# Altium footprint library airu-board.PCBLIB: 118 footprints (part 6 of 8)
Each footprint in its own frame and in the unit in brackets; x right, y up, seen from the top. Pads: shape width x height; smd on the part's side, far side on the other; paste and mask are expansions set on the pad; w line width, h text height; cw(c..) or ccw(c..) is an arc to the next point about the centre after c.
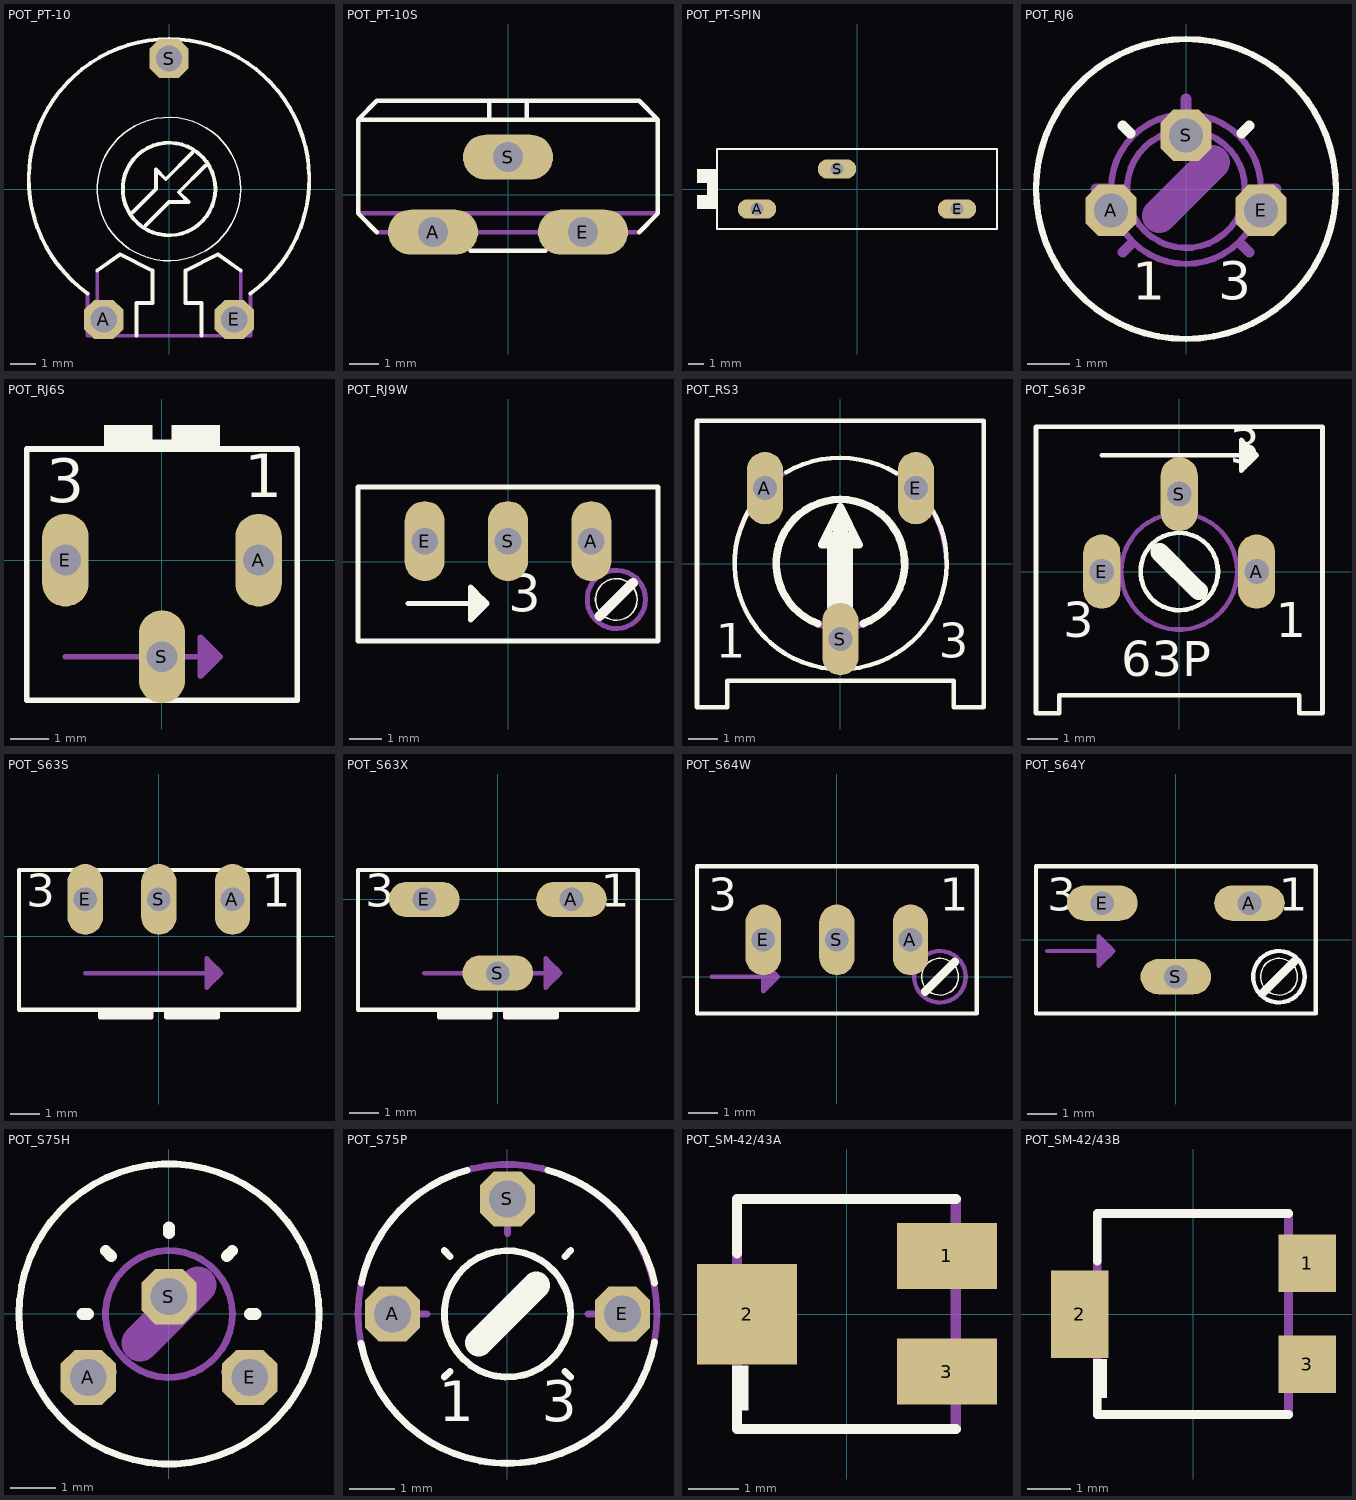
[diagram p5: the footprints below, top view; thin cyan lines are the x and y axes]

## POT_PT-10 [mil]
pads (3):
  oct 60x60 hole 40: A(-100,-200) E(100,-200) S(0,200)
Top Overlay:
  circle w6: c0,0 r71
  circle w2: c0,0 r110
  lines w6: -125,-160 cw(c0,15) 125,-160 ; -110,-125 -75,-100 -25,-125 -25,-175 -50,-175 -50,-225 ; -55,-35 -20,0 -20,30 -5,15 35,55 ; -35,-55 0,-20 30,-20 15,-5 55,35 ; 50,-225 50,-175 25,-175 25,-125 75,-100 110,-125
Mechanical 16:
  lines w6: -125,-160 -125,-225 125,-225 125,-160 ; -110,-225 -110,-125 ; 110,-225 110,-125

## POT_PT-10S [mil]
pads (3):
  oval 120x60 hole 40: A(-100,-50) E(100,-50) S(0,50)
Top Overlay:
  lines w6: -175,-50 -200,-25 -200,100 ; -50,-75 50,-75 ; -25,100 -25,125 ; 25,100 25,125 ; 175,-50 200,-25 200,100 ; -200,100 -175,125 175,125 200,100 ; -200,100 200,100
Mechanical 16:
  lines w6: -200,-25 200,-25 ; -175,-50 175,-50 ; -75,-50 -50,-75 ; 50,-75 75,-50

## POT_PT-SPIN [mil]
pads (3):
  oval 96x48 hole 32: A(-250,-50) E(250,-50) S(-50,50)
Top Overlay:
  rectangle: -375,-50 -350,50
  rectangle: -400,15 -375,50
  rectangle: -400,-50 -375,-15
  lines w6: -350,-100 350,-100 350,100 -350,100 -350,-100

## POT_RJ6 [mil]
pads (3):
  oct 48x48 hole 32: A(-70,-20) E(70,-20) S(0,50)
Top Overlay:
  circle w6: c0,0 r140
  lines w10: -59,59 -52,52 ; 52,52 59,59
  text "3" at 30,-115 h60.45
  text "1" at -50,-115 h60.45
Mechanical 16:
  circle w6: c0,0 r55
  circle w6: c0,0 r70
  lines w10: -84,0 -74,0 ; -59,-59 -52,-52 ; 0,74 0,84 ; 52,-52 59,-59 ; 74,0 84,0
  lines w32: -25,-25 25,25

## POT_RJ6S [mil]
pads (3):
  oval 48x96 hole 32: A(100,0) E(-100,0) S(0,-100)
Top Overlay:
  rectangle: -60,115 -10,140
  rectangle: 10,115 60,140
  rectangle: -10,115 10,125
  lines w6: -140,-145 -140,115 140,115 140,-145 -140,-145
  text "3" at -120,45 h77.5
  text "1" at 85,50 h77.5
Mechanical 16:
  lines w6: -100,-100 45,-100 ; 45,-115 50,-110 ; 45,-115 45,-100 ; 45,-115 40,-120 40,-80 45,-85 ; 45,-100 60,-100 ; 45,-100 45,-85 ; 45,-85 50,-90 ; 50,-110 50,-90 ; 50,-110 55,-105 ; 50,-90 55,-95 ; 55,-105 60,-100 ; 55,-105 55,-95 ; 55,-95 60,-100
  text "3" at 75,-125 h77.5

## POT_RJ9W [mil]
pads (3):
  oval 48x96 hole 32: A(100,25) E(-100,25) S(0,25)
Top Overlay:
  circle w2: c130,-45 r25
  lines w6: -120,-50 -40,-50 ; -40,-65 -35,-60 ; -40,-65 -40,-50 ; -40,-65 -45,-70 -45,-30 -40,-35 ; -40,-50 -25,-50 ; -40,-50 -40,-35 ; -40,-35 -35,-40 ; -35,-60 -35,-40 ; -35,-60 -30,-55 ; -35,-40 -30,-45 ; -30,-55 -25,-50 ; -30,-55 -30,-45 ; -30,-45 -25,-50 ; -180,-95 180,-95 180,90 -180,90 -180,-95
  lines w12: 110,-65 150,-25
  text "3" at 0,-75 h77.5
Mechanical 16:
  circle w6: c130,-45 r35
  text "1" at 135,5 h77.5
  text "3" at -170,0 h77.5

## POT_RS3 [mil]
pads (3):
  oval 48x96 hole 32: A(-100,100) E(100,100) S(0,-100)
Top Overlay:
  lines w6: -121.56,70 ccw(c0.16,0.27) 0,-140 ccw(c0.2,0.76) 121,73 ; -72.03,121 cw(c-1.72,0.48) 0,140 cw(c1.46,-1.5) 74,120 ; -190,-190 -190,189 190,189 190,-190 150,-190 150,-155 -150,-155 -150,-190 -190,-190
  lines w10: -29.85,-79.59 cw(c0,0) 0,85 cw(c0.08,-0.01) 30,-79.59 ; -15,40 -15,25 ; -10,25 -13,25 ; 0,-60 -5,-60 -5,60 5,60 5,-60 ; 10,25 12,25 ; 15,40 15,25 ; -15,25 -25,25 0,75 25,25 15,25 ; -15,25 -13,25 ; -13,25 -13,-62 12,-62 12,25 ; 12,25 15,25
  text "1" at -165,-140 h77.5
  text "3" at 130,-140 h77.5
Mechanical 16:
  lines w6: -140,0 cw(c0.75,0.45) -66.68,124 ; 63,126 cw(c-0.44,0.71) 140,0
  lines w10: -35.62,-77.18 ccw(c0,0) 0,-85 ccw(c0.5,2.09) 39,-76.03

## POT_S63P [mil]
pads (3):
  oval 48x96 hole 32: A(100,0) E(-100,0) S(0,100)
Top Overlay:
  circle w6: c0,0 r50
  lines w6: -100,150 85,150 ; 85,135 90,140 ; 85,135 85,150 ; 85,135 80,130 80,170 85,165 ; 85,150 100,150 ; 85,150 85,165 ; 85,165 90,160 ; 90,140 90,160 ; 90,140 95,145 ; 90,160 95,155 ; 95,145 100,150 ; 95,145 95,155 ; 95,155 100,150 ; -185,-183 -185,187 185,187 185,-183 155,-183 155,-160 -155,-160 -155,-183 -185,-183
  lines w24: -25,25 25,-25
  text "63P" at -75,-150 h77.5
  text "1" at 125,-100 h77.5
  text "3" at -150,-100 h77.5
  text "3" at 65,125 h77.5
Mechanical 16:
  circle w6: c0,0 r75

## POT_S63S [mil]
pads (3):
  oval 48x96 hole 32: A(100,50) E(-100,50) S(0,50)
Top Overlay:
  lines w6: -80,-105 -80,-100 ; -80,-105 -80,-110 -10,-110 -10,-105 ; -80,-105 -10,-105 ; -80,-100 -190,-100 -190,90 190,90 190,-100 80,-100 ; -80,-100 -10,-100 ; -10,-105 -10,-100 ; -10,-100 10,-100 ; 10,-105 80,-105 ; 10,-105 10,-110 80,-110 80,-105 ; 10,-105 10,-100 ; 10,-100 80,-100 ; 80,-105 80,-100
  text "3" at -180,25 h77.5
  text "1" at 140,25 h77.5
Mechanical 16:
  lines w6: -100,-50 70,-50 ; 70,-65 75,-60 ; 70,-65 70,-50 ; 70,-65 65,-70 65,-30 70,-35 ; 70,-50 85,-50 ; 70,-50 70,-35 ; 70,-35 75,-40 ; 75,-60 75,-40 ; 75,-60 80,-55 ; 75,-40 80,-45 ; 80,-55 85,-50 ; 80,-55 80,-45 ; 80,-45 85,-50
  text "3" at 100,-75 h77.5

## POT_S63X [mil]
pads (3):
  oval 96x48 hole 32: A(100,0) E(-100,0) S(0,-100)
Top Overlay:
  lines w6: -80,-155 -80,-150 ; -80,-155 -10,-155 ; -80,-155 -80,-160 -10,-160 -10,-155 ; -80,-150 -190,-150 -190,40 190,40 190,-150 80,-150 ; -80,-150 -10,-150 ; -10,-155 -10,-150 ; -10,-150 10,-150 ; 10,-155 10,-160 80,-160 80,-155 ; 10,-155 10,-150 ; 10,-155 80,-155 ; 10,-150 80,-150 ; 80,-155 80,-150
  text "3" at -180,-25 h77.5
  text "1" at 140,-25 h77.5
Mechanical 16:
  lines w6: -100,-100 70,-100 ; 70,-115 75,-110 ; 70,-115 70,-100 ; 70,-115 65,-120 65,-80 70,-85 ; 70,-100 85,-100 ; 70,-100 70,-85 ; 70,-85 75,-90 ; 75,-110 75,-90 ; 75,-110 80,-105 ; 75,-90 80,-95 ; 80,-105 85,-100 ; 80,-105 80,-95 ; 80,-95 85,-100
  text "3" at 100,-125 h77.5

## POT_S64W [mil]
pads (3):
  oval 48x96 hole 32: A(100,50) E(-100,50) S(0,50)
Top Overlay:
  circle w2: c140,0 r25
  lines w6: -190,-50 190,-50 190,150 -190,150 -190,-50
  lines w12: 120,-20 160,20
  text "3" at -175,75 h77.5
  text "1" at 140,75 h77.5
Mechanical 16:
  circle w6: c140,0 r35
  lines w6: -170,0 -95,0 ; -95,-15 -90,-10 ; -95,-15 -95,0 ; -95,-15 -100,-20 -100,20 -95,15 ; -95,0 -80,0 ; -95,0 -95,15 ; -95,15 -90,10 ; -90,-10 -90,10 ; -90,-10 -85,-5 ; -90,10 -85,5 ; -85,-5 -80,0 ; -85,-5 -85,5 ; -85,5 -80,0
  text "3" at -75,-25 h77.5

## POT_S64Y [mil]
pads (3):
  oval 96x48 hole 32: A(100,50) E(-100,50) S(0,-50)
Top Overlay:
  circle w6: c140,-50 r35
  circle w2: c140,-50 r25
  lines w6: -190,-100 190,-100 190,100 -190,100 -190,-100
  lines w12: 120,-70 160,-30
  text "3" at -175,25 h77.5
  text "1" at 140,25 h77.5
Mechanical 16:
  lines w6: -175,-15 -100,-15 ; -100,-30 -95,-25 ; -100,-30 -100,-15 ; -100,-30 -105,-35 -105,5 -100,0 ; -100,-15 -85,-15 ; -100,-15 -100,0 ; -100,0 -95,-5 ; -95,-25 -95,-5 ; -95,-25 -90,-20 ; -95,-5 -90,-10 ; -90,-20 -85,-15 ; -90,-20 -90,-10 ; -90,-10 -85,-15
  text "3" at -80,-40 h77.5

## POT_S75H [mil]
pads (3):
  oct 48x48 hole 32: A(-70,-55) E(70,-55) S(0,15)
Top Overlay:
  circle w6: c0,0 r130
  lines w10: -75,0 -70,0 ; -55,55 -50,50 ; 0,70 0,75 ; 50,50 55,55 ; 70,0 75,0
Mechanical 16:
  circle w6: c0,0 r55
  lines w10: -55,-55 -50,-50 ; 50,-50 55,-55
  lines w32: -25,-25 25,25
  text "3" at 30,-105 h60.45
  text "1" at -60,-105 h60.45

## POT_S75P [mil]
pads (3):
  oct 48x48 hole 32: A(-100,0) E(100,0) S(0,100)
Top Overlay:
  circle w6: c0,0 r55
  lines w6: -127.48,-25.5 ccw(c0,0) 0,-130 ccw(c0.17,0.2) 128,-24.55 ; -127.08,27 cw(c-0.43,0.26) -35,125 ; -55,-55 -50,-50 ; -55,55 -50,50 ; 35,125 cw(c0.89,-0.5) 128,27 ; 50,-50 55,-55 ; 50,50 55,55
  lines w24: -25,-25 25,25
  text "3" at 30,-105 h60.45
  text "1" at -60,-105 h60.45
Mechanical 16:
  circle w6: c0,0 r130
  lines w6: -75,0 -70,0 ; 0,70 0,75 ; 70,0 75,0

## POT_SM-42/43A [mil]
pads (3):
  rect 79x52 smd: 1(79,46) 3(79,-45.28)
  rect 79x79 smd: 2(-78.74,0)
Top Overlay:
  region: -77.76,-75.79 -77.76,-40.35 -90.55,-40.35 -90.55,-75.79
  lines w8: -86.61,-47.24 -86.61,-90.55 86,-90.55 ; -86.61,48 -86.61,91 86,91
Mechanical 16:
  region: 98.91,-66.2 98.91,-34.2 87.09,-34.2 87.09,-66.2
  region: 99,35 99,67 87,67 87,35
  region: -86.57,-25.54 -86.57,25.64 -98.47,25.64 -98.47,-25.54
  lines w8: -86.61,-90.55 -86.61,91 ; 86,-90.55 86,91

## POT_SM-42/43B [mil]
pads (3):
  rect 52x52 smd: 1(103,46) 3(103,-45.28)
  rect 52x79 smd: 2(-102.36,0)
Top Overlay:
  region: -77.76,-75.79 -77.76,-40.35 -90.55,-40.35 -90.55,-75.79
  lines w8: -86.61,-47.24 -86.61,-90.55 86,-90.55 ; -86.61,48 -86.61,91 86,91
Mechanical 16:
  region: 118.75,-66.2 118.75,-34.2 87.25,-34.2 87.25,-66.2
  region: 118.5,34.5 118.5,66.5 87.5,66.5 87.5,34.5
  region: -86.24,-25.22 -86.24,25.96 -117.5,25.96 -117.5,-25.22
  lines w8: -86.61,-90.55 -86.61,91 ; 86,-90.55 86,91